# EAGLE library part HC-05 (library SW_Communications)
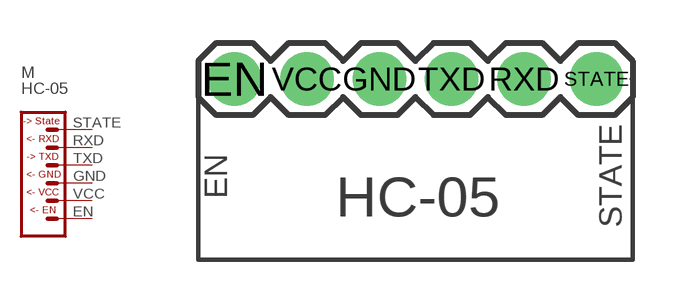
[diagram p1: symbol with the pads of 1X06_HC_05; footprint 1X06_HC_05]

Designator prefix M

## HC-05 (CATEGORY: Communications; DESCRIPTION: Bluetooth to UART Module; MFGS: HiLetgo; MPNS: HC-05; PACKAGE: Module)  [1X06_HC_05]
EN  EN  in
GND  GND  in
RXD  RXD  in
STATE  STATE  out
TXD  TXD  out
VCC  VCC  in

## Footprint 1X06_HC_05 (pad centres in mm)
Plated Through Hole - 6 Pin Specifications: Pin count:6 Pin pitch:0.1" Example device(s): CONN_06
drill 1.016 pad 1.88: EN 0,0; GND 5.08,0; RXD 10.16,0; STATE 12.7,0; TXD 7.62,0; VCC 2.54,0